# EAGLE library part LTC6911CMS-1 (library HomeMade)
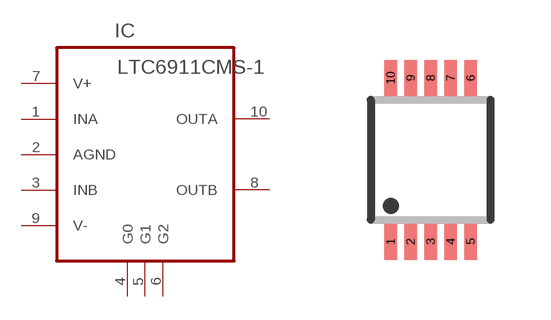
[diagram p7: symbol with the pads of MSOP10; footprint MSOP10]

Designator prefix IC

## LTC6911CMS-1  [MSOP10]
1  INA  in
2  AGND  pas
3  INB  in
4  G0  in
5  G1  in
6  G2  in
7  V+  pwr
8  OUTB  out
9  V-  pwr
10  OUTA  out

## Footprint MSOP10 (pad centres in mm)
smd 0.31 x 0.9: 1 -1,-2.05; 2 -0.5,-2.05; 3 0,-2.05; 4 0.5,-2.05; 5 1,-2.05; 6 1,2.05; 7 0.5,2.05; 8 0,2.05; 9 -0.5,2.05; 10 -1,2.05